# Altium integrated library Linear Technology Comparators.IntLib: 630 symbols (part 2 of 24)
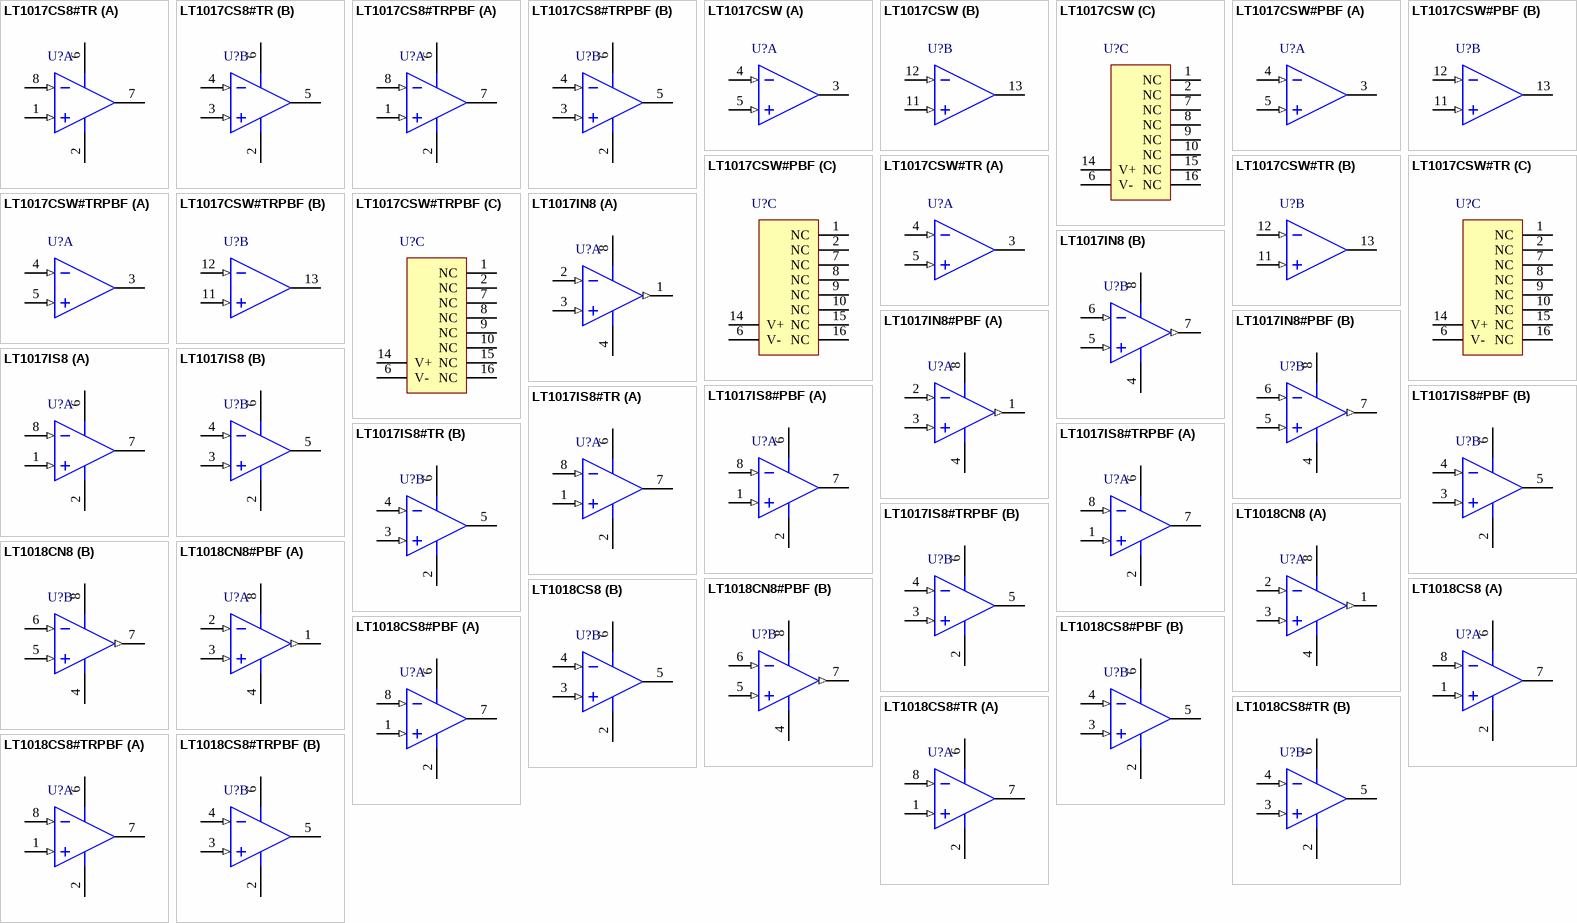
[diagram p25: symbols LT1017CS8#TR to LT1018CS8#TRPBF]

## LT1017CS8#TRPBF
designator U?
Micropower Comparator, 2 Channels, 1.2 to 40 V, 0 to +70 degC, 8-pin SOP (S8), Tape and Reel; Generic Part Number: LT1017; Manufacturer: Linear Technology; PartNumber: LT1017CS8#TRPBF; Channels (#): 2; Prop Delay (us): 22; Supply Current (uA) Guaranteed: 60; Supply Current (uA) Typical: 30; Vos (mV) Guaranteed: 1; Vos (mV) Typical: 0.4; Vs Max (V): 40; Vs Min (V): 1.2; DatasheetVersion: Rev F; PackageReference: S8; PackageDescription: 8-Pin Plastic Small Outline (Narrow .150 Inch), Body 4.9 x 3.9 mm, Pitch 1.27 mm; Supplier 1: Digi-Key; Supplier Part Number 1: LT1017CS8#TRPBF-ND; Supplier 2: Newark; Supplier Part Number 2: 57M0873; Features: Comparator; RoHS: Y; Supply Voltage Range: 1.2 to 40 V; Mounting Technology: Surface Mount; ComponentLink1Description: Manufacturer URL; ComponentLink1URL: http://www.linear.com/; ComponentLink2Description: Datasheet; ComponentLink2URL: http://cds.linear.com/docs/en/datasheet/10178ff.pdf; ComponentLink3Description: Package Specification; ComponentLink3URL: http://cds.linear.com/docs/en/packaging/05081610_G_SO8.pdf
footprint LT-S8_N (SOP, 8-Leads, Body 4.9x3.9mm, Pitch 1.27mm, IPC Medium Density)
footprint LT-S8_L (SOP, 8-Leads, Body 4.9x3.9mm, Pitch 1.27mm, IPC High Density)
footprint LT-S8_M (SOP, 8-Leads, Body 4.9x3.9mm, Pitch 1.27mm, IPC Low Density)
pins on every part: 2 V- (power), 6 V+ (power)
part A pins: 1 +IN A (in), 7 OUT A (oc), 8 -IN A (in)
part B pins: 3 +IN B (in), 4 -IN B (in), 5 OUT B (oc)

## LT1017CSW
designator U?
Micropower Comparator, 2 Channels, 1.2 to 40 V, 0 to +70 degC, 16-pin SOP (SW16); Generic Part Number: LT1017; Manufacturer: Linear Technology; PartNumber: LT1017CSW; Channels (#): 2; Prop Delay (us): 22; Supply Current (uA) Guaranteed: 60; Supply Current (uA) Typical: 30; Vos (mV) Guaranteed: 1; Vos (mV) Typical: 0.4; Vs Max (V): 40; Vs Min (V): 1.2; DatasheetVersion: Rev F; PackageReference: SW-16; PackageDescription: 16-Pin Plastic Small Outline, Body 10.30 x 7.49 mm, Pitch 1.27 mm; Supplier 1: Digi-Key; Supplier Part Number 1: LT1017CSW-ND; Features: Comparator; RoHS: N; Supply Voltage Range: 1.2 to 40 V; Mounting Technology: Surface Mount; ComponentLink1Description: Manufacturer URL; ComponentLink1URL: http://www.linear.com/; ComponentLink2Description: Datasheet; ComponentLink2URL: http://cds.linear.com/docs/en/datasheet/10178ff.pdf; ComponentLink3Description: Package Specification; ComponentLink3URL: http://cds.linear.com/docs/en/packaging/SO_16_05-08-1620.pdf
footprint LT-SW-16_N (SOIC, 16-Leads, Body 10.3x7.49mm, Pitch 1.27mm, IPC Medium Density)
footprint LT-SW-16_L (SOIC, 16-Leads, Body 10.3x7.49mm, Pitch 1.27mm, IPC High Density)
footprint LT-SW-16_M (SOIC, 16-Leads, Body 10.3x7.49mm, Pitch 1.27mm, IPC Low Density)
part A pins: 3 OUT A (oc), 4 -IN A (in), 5 +IN A (in)
part B pins: 11 +IN B (in), 12 -IN B (in), 13 OUT B (oc)
part C pins: 1 NC, 2 NC, 6 V- (power), 7 NC, 8 NC, 9 NC, 10 NC, 14 V+ (power), 15 NC, 16 NC

## LT1017CSW#PBF
designator U?
Micropower Comparator, 2 Channels, 1.2 to 40 V, 0 to +70 degC, 16-pin SOP (SW16); Generic Part Number: LT1017; Manufacturer: Linear Technology; PartNumber: LT1017CSW#PBF; Channels (#): 2; Prop Delay (us): 22; Supply Current (uA) Guaranteed: 60; Supply Current (uA) Typical: 30; Vos (mV) Guaranteed: 1; Vos (mV) Typical: 0.4; Vs Max (V): 40; Vs Min (V): 1.2; DatasheetVersion: Rev F; PackageReference: SW-16; PackageDescription: 16-Pin Plastic Small Outline, Body 10.30 x 7.49 mm, Pitch 1.27 mm; Supplier 1: Digi-Key; Supplier Part Number 1: LT1017CSW#PBF-ND; Features: Comparator; RoHS: Y; Supply Voltage Range: 1.2 to 40 V; Mounting Technology: Surface Mount; ComponentLink1Description: Manufacturer URL; ComponentLink1URL: http://www.linear.com/; ComponentLink2Description: Datasheet; ComponentLink2URL: http://cds.linear.com/docs/en/datasheet/10178ff.pdf; ComponentLink3Description: Package Specification; ComponentLink3URL: http://cds.linear.com/docs/en/packaging/SO_16_05-08-1620.pdf
footprint LT-SW-16_N (SOIC, 16-Leads, Body 10.3x7.49mm, Pitch 1.27mm, IPC Medium Density)
footprint LT-SW-16_L (SOIC, 16-Leads, Body 10.3x7.49mm, Pitch 1.27mm, IPC High Density)
footprint LT-SW-16_M (SOIC, 16-Leads, Body 10.3x7.49mm, Pitch 1.27mm, IPC Low Density)
part A pins: 3 OUT A (oc), 4 -IN A (in), 5 +IN A (in)
part B pins: 11 +IN B (in), 12 -IN B (in), 13 OUT B (oc)
part C pins: 1 NC, 2 NC, 6 V- (power), 7 NC, 8 NC, 9 NC, 10 NC, 14 V+ (power), 15 NC, 16 NC

## LT1017CSW#TR
designator U?
Micropower Comparator, 2 Channels, 1.2 to 40 V, 0 to +70 degC, 16-pin SOP (SW16), Tape and Reel; Generic Part Number: LT1017; Manufacturer: Linear Technology; PartNumber: LT1017CSW#TR; Channels (#): 2; Prop Delay (us): 22; Supply Current (uA) Guaranteed: 60; Supply Current (uA) Typical: 30; Vos (mV) Guaranteed: 1; Vos (mV) Typical: 0.4; Vs Max (V): 40; Vs Min (V): 1.2; DatasheetVersion: Rev F; PackageReference: SW-16; PackageDescription: 16-Pin Plastic Small Outline, Body 10.30 x 7.49 mm, Pitch 1.27 mm; Supplier 1: Digi-Key; Supplier Part Number 1: LT1017CSW#TR-ND; Features: Comparator; RoHS: N; Supply Voltage Range: 1.2 to 40 V; Mounting Technology: Surface Mount; ComponentLink1Description: Manufacturer URL; ComponentLink1URL: http://www.linear.com/; ComponentLink2Description: Datasheet; ComponentLink2URL: http://cds.linear.com/docs/en/datasheet/10178ff.pdf; ComponentLink3Description: Package Specification; ComponentLink3URL: http://cds.linear.com/docs/en/packaging/SO_16_05-08-1620.pdf
footprint LT-SW-16_N (SOIC, 16-Leads, Body 10.3x7.49mm, Pitch 1.27mm, IPC Medium Density)
footprint LT-SW-16_L (SOIC, 16-Leads, Body 10.3x7.49mm, Pitch 1.27mm, IPC High Density)
footprint LT-SW-16_M (SOIC, 16-Leads, Body 10.3x7.49mm, Pitch 1.27mm, IPC Low Density)
part A pins: 3 OUT A (oc), 4 -IN A (in), 5 +IN A (in)
part B pins: 11 +IN B (in), 12 -IN B (in), 13 OUT B (oc)
part C pins: 1 NC, 2 NC, 6 V- (power), 7 NC, 8 NC, 9 NC, 10 NC, 14 V+ (power), 15 NC, 16 NC

## LT1017CSW#TRPBF
designator U?
Micropower Comparator, 2 Channels, 1.2 to 40 V, 0 to +70 degC, 16-pin SOP (SW16), Tape and Reel; Generic Part Number: LT1017; Manufacturer: Linear Technology; PartNumber: LT1017CSW#TRPBF; Channels (#): 2; Prop Delay (us): 22; Supply Current (uA) Guaranteed: 60; Supply Current (uA) Typical: 30; Vos (mV) Guaranteed: 1; Vos (mV) Typical: 0.4; Vs Max (V): 40; Vs Min (V): 1.2; DatasheetVersion: Rev F; PackageReference: SW-16; PackageDescription: 16-Pin Plastic Small Outline, Body 10.30 x 7.49 mm, Pitch 1.27 mm; Supplier 1: Digi-Key; Supplier Part Number 1: LT1017CSW#TRPBF-ND; Features: Comparator; RoHS: Y; Supply Voltage Range: 1.2 to 40 V; Mounting Technology: Surface Mount; ComponentLink1Description: Manufacturer URL; ComponentLink1URL: http://www.linear.com/; ComponentLink2Description: Datasheet; ComponentLink2URL: http://cds.linear.com/docs/en/datasheet/10178ff.pdf; ComponentLink3Description: Package Specification; ComponentLink3URL: http://cds.linear.com/docs/en/packaging/SO_16_05-08-1620.pdf
footprint LT-SW-16_N (SOIC, 16-Leads, Body 10.3x7.49mm, Pitch 1.27mm, IPC Medium Density)
footprint LT-SW-16_L (SOIC, 16-Leads, Body 10.3x7.49mm, Pitch 1.27mm, IPC High Density)
footprint LT-SW-16_M (SOIC, 16-Leads, Body 10.3x7.49mm, Pitch 1.27mm, IPC Low Density)
part A pins: 3 OUT A (oc), 4 -IN A (in), 5 +IN A (in)
part B pins: 11 +IN B (in), 12 -IN B (in), 13 OUT B (oc)
part C pins: 1 NC, 2 NC, 6 V- (power), 7 NC, 8 NC, 9 NC, 10 NC, 14 V+ (power), 15 NC, 16 NC

## LT1017IN8
designator U?
Micropower Comparator, 2 Channels, 1.2 to 40 V, -40 to +85 degC, 8-pin PDIP (N8); Generic Part Number: LT1017; Manufacturer: Linear Technology; PartNumber: LT1017IN8; Channels (#): 2; Prop Delay (us): 22; Supply Current (uA) Guaranteed: 60; Supply Current (uA) Typical: 30; Supply Voltage Range: 1.2V to 40V; Vos (mV) Guaranteed: 1; Vos (mV) Typical: 0.4; Vs Max (V): 40; Vs Min (V): 1.2; DatasheetVersion: Rev F; PackageReference: N8; PackageDescription: 8-Pin PDIP, Row Spacing 7.62, Pitch 2.54 mm; Supplier 1: Digi-Key; Supplier Part Number 1: LT1017IN8-ND; Features: Comparator; RoHS: N; Mounting Technology: Through Hole; ComponentLink1Description: Manufacturer URL; ComponentLink1URL: http://www.linear.com/; ComponentLink2Description: Datasheet; ComponentLink2URL: http://cds.linear.com/docs/en/datasheet/10178ff.pdf; ComponentLink3Description: Package Specification; ComponentLink3URL: http://cds.linear.com/docs/en/packaging/05081510_I_N8.pdf
footprint LT-N8 (DIP, 8-Leads, Body 10.16x6.477mm, Pitch 2.54mm)
pins on every part: 4 V- (power), 8 V+ (power)
part A pins: 1 OUTPUTA (out), 2 -INA (in), 3 +INA (in)
part B pins: 5 +INB (in), 6 -INB (in), 7 OUTPUTB (out)

## LT1017IN8#PBF
designator U?
Micropower Comparator, 2 Channels, 1.2 to 40 V, -40 to +85 degC, 8-pin PDIP (N8); Generic Part Number: LT1017; Manufacturer: Linear Technology; PartNumber: LT1017IN8#PBF; Channels (#): 2; Prop Delay (us): 22; Supply Current (uA) Guaranteed: 60; Supply Current (uA) Typical: 30; Vos (mV) Guaranteed: 1; Vos (mV) Typical: 0.4; Vs Max (V): 40; Vs Min (V): 1.2; DatasheetVersion: Rev F; PackageReference: N8; PackageDescription: 8-Pin PDIP, Row Spacing 7.62, Pitch 2.54 mm; Supplier 1: Digi-Key; Supplier Part Number 1: LT1017IN8#PBF-ND; Supplier 2: Newark; Supplier Part Number 2: 57M0875; Features: Comparator; RoHS: Y; Supply Voltage Range: 1.2 to 40 V; Mounting Technology: Through Hole; ComponentLink1Description: Manufacturer URL; ComponentLink1URL: http://www.linear.com/; ComponentLink2Description: Datasheet; ComponentLink2URL: http://cds.linear.com/docs/en/datasheet/10178ff.pdf; ComponentLink3Description: Package Specification; ComponentLink3URL: http://cds.linear.com/docs/en/packaging/05081510_I_N8.pdf
footprint LT-N8 (DIP, 8-Leads, Body 10.16x6.477mm, Pitch 2.54mm)
pins on every part: 4 V- (power), 8 V+ (power)
part A pins: 1 OUTPUTA (out), 2 -INA (in), 3 +INA (in)
part B pins: 5 +INB (in), 6 -INB (in), 7 OUTPUTB (out)

## LT1017IS8
designator U?
Micropower Comparator, 2 Channels, 1.2 to 40 V, -40 to +85 degC, 8-pin SOP (S8); Generic Part Number: LT1017; Manufacturer: Linear Technology; PartNumber: LT1017IS8; Channels (#): 2; Prop Delay (us): 22; Supply Current (uA) Guaranteed: 60; Supply Current (uA) Typical: 30; Vos (mV) Guaranteed: 1; Vos (mV) Typical: 0.4; Vs Max (V): 40; Vs Min (V): 1.2; DatasheetVersion: Rev F; PackageReference: S8; PackageDescription: 8-Pin Plastic Small Outline (Narrow .150 Inch), Body 4.9 x 3.9 mm, Pitch 1.27 mm; Supplier 1: Digi-Key; Supplier Part Number 1: LT1017IS8-ND; Supplier 2: Newark; Supplier Part Number 2: 57M0876; Features: Comparator; RoHS: N; Supply Voltage Range: 1.2 to 40 V; Mounting Technology: Surface Mount; ComponentLink1Description: Manufacturer URL; ComponentLink1URL: http://www.linear.com/; ComponentLink2Description: Datasheet; ComponentLink2URL: http://cds.linear.com/docs/en/datasheet/10178ff.pdf; ComponentLink3Description: Package Specification; ComponentLink3URL: http://cds.linear.com/docs/en/packaging/05081610_G_SO8.pdf
footprint LT-S8_N (SOP, 8-Leads, Body 4.9x3.9mm, Pitch 1.27mm, IPC Medium Density)
footprint LT-S8_L (SOP, 8-Leads, Body 4.9x3.9mm, Pitch 1.27mm, IPC High Density)
footprint LT-S8_M (SOP, 8-Leads, Body 4.9x3.9mm, Pitch 1.27mm, IPC Low Density)
pins on every part: 2 V- (power), 6 V+ (power)
part A pins: 1 +IN A (in), 7 OUT A (oc), 8 -IN A (in)
part B pins: 3 +IN B (in), 4 -IN B (in), 5 OUT B (oc)

## LT1017IS8#PBF
designator U?
Micropower Comparator, 2 Channels, 1.2 to 40 V, -40 to +85 degC, 8-pin SOP (S8); Generic Part Number: LT1017; Manufacturer: Linear Technology; PartNumber: LT1017IS8#PBF; Channels (#): 2; Prop Delay (us): 22; Supply Current (uA) Guaranteed: 60; Supply Current (uA) Typical: 30; Vos (mV) Guaranteed: 1; Vos (mV) Typical: 0.4; Vs Max (V): 40; Vs Min (V): 1.2; DatasheetVersion: Rev F; PackageReference: S8; PackageDescription: 8-Pin Plastic Small Outline (Narrow .150 Inch), Body 4.9 x 3.9 mm, Pitch 1.27 mm; Supplier 1: Digi-Key; Supplier Part Number 1: LT1017IS8#PBF-ND; Supplier 2: Farnell; Supplier Part Number 2: 1663330; Supplier 3: Newark; Supplier Part Number 3: 57M0877; Features: Comparator; RoHS: Y; Supply Voltage Range: 1.2 to 40 V; Mounting Technology: Surface Mount; ComponentLink1Description: Manufacturer URL; ComponentLink1URL: http://www.linear.com/; ComponentLink2Description: Datasheet; ComponentLink2URL: http://cds.linear.com/docs/en/datasheet/10178ff.pdf; ComponentLink3Description: Package Specification; ComponentLink3URL: http://cds.linear.com/docs/en/packaging/05081610_G_SO8.pdf
footprint LT-S8_N (SOP, 8-Leads, Body 4.9x3.9mm, Pitch 1.27mm, IPC Medium Density)
footprint LT-S8_L (SOP, 8-Leads, Body 4.9x3.9mm, Pitch 1.27mm, IPC High Density)
footprint LT-S8_M (SOP, 8-Leads, Body 4.9x3.9mm, Pitch 1.27mm, IPC Low Density)
pins on every part: 2 V- (power), 6 V+ (power)
part A pins: 1 +IN A (in), 7 OUT A (oc), 8 -IN A (in)
part B pins: 3 +IN B (in), 4 -IN B (in), 5 OUT B (oc)

## LT1017IS8#TR
designator U?
Micropower Comparator, 2 Channels, 1.2 to 40 V, -40 to +85 degC, 8-pin SOP (S8), Tape and Reel; Generic Part Number: LT1017; Manufacturer: Linear Technology; PartNumber: LT1017IS8#TR; Channels (#): 2; Prop Delay (us): 22; Supply Current (uA) Guaranteed: 60; Supply Current (uA) Typical: 30; Vos (mV) Guaranteed: 1; Vos (mV) Typical: 0.4; Vs Max (V): 40; Vs Min (V): 1.2; DatasheetVersion: Rev F; PackageReference: S8; PackageDescription: 8-Pin Plastic Small Outline (Narrow .150 Inch), Body 4.9 x 3.9 mm, Pitch 1.27 mm; Supplier 1: Digi-Key; Supplier Part Number 1: LT1017IS8#TR-ND; Supplier 2: Newark; Supplier Part Number 2: 57M0878; Features: Comparator; RoHS: N; Supply Voltage Range: 1.2 to 40 V; Mounting Technology: Surface Mount; ComponentLink1Description: Manufacturer URL; ComponentLink1URL: http://www.linear.com/; ComponentLink2Description: Datasheet; ComponentLink2URL: http://cds.linear.com/docs/en/datasheet/10178ff.pdf; ComponentLink3Description: Package Specification; ComponentLink3URL: http://cds.linear.com/docs/en/packaging/05081610_G_SO8.pdf
footprint LT-S8_N (SOP, 8-Leads, Body 4.9x3.9mm, Pitch 1.27mm, IPC Medium Density)
footprint LT-S8_L (SOP, 8-Leads, Body 4.9x3.9mm, Pitch 1.27mm, IPC High Density)
footprint LT-S8_M (SOP, 8-Leads, Body 4.9x3.9mm, Pitch 1.27mm, IPC Low Density)
pins on every part: 2 V- (power), 6 V+ (power)
part A pins: 1 +IN A (in), 7 OUT A (oc), 8 -IN A (in)
part B pins: 3 +IN B (in), 4 -IN B (in), 5 OUT B (oc)

## LT1017IS8#TRPBF
designator U?
Micropower Comparator, 2 Channels, 1.2 to 40 V, -40 to +85 degC, 8-pin SOP (S8), Tape and Reel; Generic Part Number: LT1017; Manufacturer: Linear Technology; PartNumber: LT1017IS8#TRPBF; Channels (#): 2; Prop Delay (us): 22; Supply Current (uA) Guaranteed: 60; Supply Current (uA) Typical: 30; Vos (mV) Guaranteed: 1; Vos (mV) Typical: 0.4; Vs Max (V): 40; Vs Min (V): 1.2; DatasheetVersion: Rev F; PackageReference: S8; PackageDescription: 8-Pin Plastic Small Outline (Narrow .150 Inch), Body 4.9 x 3.9 mm, Pitch 1.27 mm; Supplier 1: Digi-Key; Supplier Part Number 1: LT1017IS8#TRPBF-ND; Supplier 2: Newark; Supplier Part Number 2: 57M0879; Features: Comparator; RoHS: Y; Supply Voltage Range: 1.2 to 40 V; Mounting Technology: Surface Mount; ComponentLink1Description: Manufacturer URL; ComponentLink1URL: http://www.linear.com/; ComponentLink2Description: Datasheet; ComponentLink2URL: http://cds.linear.com/docs/en/datasheet/10178ff.pdf; ComponentLink3Description: Package Specification; ComponentLink3URL: http://cds.linear.com/docs/en/packaging/05081610_G_SO8.pdf
footprint LT-S8_N (SOP, 8-Leads, Body 4.9x3.9mm, Pitch 1.27mm, IPC Medium Density)
footprint LT-S8_L (SOP, 8-Leads, Body 4.9x3.9mm, Pitch 1.27mm, IPC High Density)
footprint LT-S8_M (SOP, 8-Leads, Body 4.9x3.9mm, Pitch 1.27mm, IPC Low Density)
pins on every part: 2 V- (power), 6 V+ (power)
part A pins: 1 +IN A (in), 7 OUT A (oc), 8 -IN A (in)
part B pins: 3 +IN B (in), 4 -IN B (in), 5 OUT B (oc)

## LT1018CN8
designator U?
Micropower Comparator, 2 Channels, 1.1 to 40 V, 0 to +70 degC, 8-pin PDIP (N8); Generic Part Number: LT1018; Manufacturer: Linear Technology; PartNumber: LT1018CN8; Channels (#): 2; Prop Delay (us): 6; Supply Current (uA) Guaranteed: 250; Supply Current (uA) Typical: 110; Supply Voltage Range: 1.2 to 40V; Vos (mV) Guaranteed: 1; Vos (mV) Typical: 0.4; Vs Max (V): 40; Vs Min (V): 1.2; DatasheetVersion: Rev F; PackageReference: N8; PackageDescription: 8-Pin PDIP, Row Spacing 7.62, Pitch 2.54 mm; Supplier 1: Digi-Key; Supplier Part Number 1: LT1018CN8-ND; Features: Comparator; RoHS: N; Mounting Technology: Through Hole; ComponentLink1Description: Manufacturer URL; ComponentLink1URL: http://www.linear.com/; ComponentLink2Description: Datasheet; ComponentLink2URL: http://cds.linear.com/docs/en/datasheet/10178ff.pdf; ComponentLink3Description: Package Specification; ComponentLink3URL: http://cds.linear.com/docs/en/packaging/05081510_I_N8.pdf
footprint LT-N8 (DIP, 8-Leads, Body 10.16x6.477mm, Pitch 2.54mm)
pins on every part: 4 V- (power), 8 V+ (power)
part A pins: 1 OUTPUTA (out), 2 -INA (in), 3 +INA (in)
part B pins: 5 +INB (in), 6 -INB (in), 7 OUTPUTB (out)

## LT1018CN8#PBF
designator U?
Micropower Comparator, 2 Channels, 1.2 to 40 V, 0 to +70 degC, 8-pin PDIP (N8); Generic Part Number: LT1018; Manufacturer: Linear Technology; PartNumber: LT1018CN8#PBF; Channels (#): 2; Prop Delay (us): 6; Supply Current (uA) Guaranteed: 250; Supply Current (uA) Typical: 110; Supply Voltage Range: 1.2V to 40V; Vos (mV) Guaranteed: 1; Vos (mV) Typical: 0.4; Vs Max (V): 40; Vs Min (V): 1.2; DatasheetVersion: Rev F; PackageReference: N8; PackageDescription: 8-Pin PDIP, Row Spacing 7.62, Pitch 2.54 mm; Supplier 1: Digi-Key; Supplier Part Number 1: LT1018CN8#PBF-ND; Supplier 2: Farnell; Supplier Part Number 2: 2308582; Supplier 3: Newark; Supplier Part Number 3: 57M0881; Features: Comparator; RoHS: Y; Mounting Technology: Through Hole; ComponentLink1Description: Manufacturer URL; ComponentLink1URL: http://www.linear.com/; ComponentLink2Description: Datasheet; ComponentLink2URL: http://cds.linear.com/docs/en/datasheet/10178ff.pdf; ComponentLink3Description: Package Specification; ComponentLink3URL: http://cds.linear.com/docs/en/packaging/05081510_I_N8.pdf
footprint LT-N8 (DIP, 8-Leads, Body 10.16x6.477mm, Pitch 2.54mm)
pins on every part: 4 V- (power), 8 V+ (power)
part A pins: 1 OUTPUTA (out), 2 -INA (in), 3 +INA (in)
part B pins: 5 +INB (in), 6 -INB (in), 7 OUTPUTB (out)

## LT1018CS8
designator U?
Micropower Comparator, 2 Channels, 1.2 to 40 V, 0 to +70 degC, 8-pin SOP (S8); Generic Part Number: LT1018; Manufacturer: Linear Technology; PartNumber: LT1018CS8; Channels (#): 2; Prop Delay (us): 6; Supply Current (uA) Guaranteed: 250; Supply Current (uA) Typical: 110; Supply Voltage Range: 1.2V to 40V; Vos (mV) Guaranteed: 1; Vos (mV) Typical: 0.4; Vs Max (V): 40; Vs Min (V): 1.2; DatasheetVersion: Rev F; PackageReference: S8; PackageDescription: 8-Pin Plastic Small Outline (Narrow .150 Inch), Body 4.9 x 3.9 mm, Pitch 1.27 mm; Supplier 1: Digi-Key; Supplier Part Number 1: LT1018CS8-ND; Features: Comparator; RoHS: N; Mounting Technology: Surface Mount; ComponentLink1Description: Manufacturer URL; ComponentLink1URL: http://www.linear.com/; ComponentLink2Description: Datasheet; ComponentLink2URL: http://cds.linear.com/docs/en/datasheet/10178ff.pdf; ComponentLink3Description: Package Specification; ComponentLink3URL: http://cds.linear.com/docs/en/packaging/05081610_G_SO8.pdf
footprint LT-S8_N (SOP, 8-Leads, Body 4.9x3.9mm, Pitch 1.27mm, IPC Medium Density)
footprint LT-S8_L (SOP, 8-Leads, Body 4.9x3.9mm, Pitch 1.27mm, IPC High Density)
footprint LT-S8_M (SOP, 8-Leads, Body 4.9x3.9mm, Pitch 1.27mm, IPC Low Density)
pins on every part: 2 V- (power), 6 V+ (power)
part A pins: 1 +IN A (in), 7 OUT A (oc), 8 -IN A (in)
part B pins: 3 +IN B (in), 4 -IN B (in), 5 OUT B (oc)

## LT1018CS8#PBF
designator U?
Micropower Comparator, 2 Channels, 1.2 to 40 V, 0 to +70 degC, 8-pin SOP (S8); Generic Part Number: LT1018; Manufacturer: Linear Technology; PartNumber: LT1018CS8#PBF; Channels (#): 2; Prop Delay (us): 6; Supply Current (uA) Guaranteed: 250; Supply Current (uA) Typical: 110; Vos (mV) Guaranteed: 1; Vos (mV) Typical: 0.4; Vs Max (V): 40; Vs Min (V): 1.2; DatasheetVersion: Rev F; PackageReference: S8; PackageDescription: 8-Pin Plastic Small Outline (Narrow .150 Inch), Body 4.9 x 3.9 mm, Pitch 1.27 mm; Supplier 1: Digi-Key; Supplier Part Number 1: LT1018CS8#PBF-ND; Supplier 2: Farnell; Supplier Part Number 2: 2211394; Supplier 3: Newark; Supplier Part Number 3: 57M0887; Features: Comparator; RoHS: Y; Supply Voltage Range: 1.2 to 40 V; Mounting Technology: Surface Mount; ComponentLink1Description: Manufacturer URL; ComponentLink1URL: http://www.linear.com/; ComponentLink2Description: Datasheet; ComponentLink2URL: http://cds.linear.com/docs/en/datasheet/10178ff.pdf; ComponentLink3Description: Package Specification; ComponentLink3URL: http://cds.linear.com/docs/en/packaging/05081610_G_SO8.pdf
footprint LT-S8_N (SOP, 8-Leads, Body 4.9x3.9mm, Pitch 1.27mm, IPC Medium Density)
footprint LT-S8_L (SOP, 8-Leads, Body 4.9x3.9mm, Pitch 1.27mm, IPC High Density)
footprint LT-S8_M (SOP, 8-Leads, Body 4.9x3.9mm, Pitch 1.27mm, IPC Low Density)
pins on every part: 2 V- (power), 6 V+ (power)
part A pins: 1 +IN A (in), 7 OUT A (oc), 8 -IN A (in)
part B pins: 3 +IN B (in), 4 -IN B (in), 5 OUT B (oc)

## LT1018CS8#TR
designator U?
Micropower Comparator, 2 Channels, 1.1 to 40 V, 0 to +70 degC, 8-pin SOP (S8), Tape and Reel; Generic Part Number: LT1018; Manufacturer: Linear Technology; PartNumber: LT1018CS8#TR; Channels (#): 2; Prop Delay (us): 6; Supply Current (uA) Guaranteed: 250; Supply Current (uA) Typical: 110; Supply Voltage Range: 1.2 to 40 V; Vos (mV) Guaranteed: 1; Vos (mV) Typical: 0.4; Vs Max (V): 40; Vs Min (V): 1.2; DatasheetVersion: Rev F; PackageReference: S8; PackageDescription: 8-Pin Plastic Small Outline (Narrow .150 Inch), Body 4.9 x 3.9 mm, Pitch 1.27 mm; Supplier 1: Digi-Key; Supplier Part Number 1: LT1018CS8#TR-ND; Features: Comparator; RoHS: N; Mounting Technology: Surface Mount; ComponentLink1Description: Manufacturer URL; ComponentLink1URL: http://www.linear.com/; ComponentLink2Description: Datasheet; ComponentLink2URL: http://cds.linear.com/docs/en/datasheet/10178ff.pdf; ComponentLink3Description: Package Specification; ComponentLink3URL: http://cds.linear.com/docs/en/packaging/05081610_G_SO8.pdf
footprint LT-S8_N (SOP, 8-Leads, Body 4.9x3.9mm, Pitch 1.27mm, IPC Medium Density)
footprint LT-S8_L (SOP, 8-Leads, Body 4.9x3.9mm, Pitch 1.27mm, IPC High Density)
footprint LT-S8_M (SOP, 8-Leads, Body 4.9x3.9mm, Pitch 1.27mm, IPC Low Density)
pins on every part: 2 V- (power), 6 V+ (power)
part A pins: 1 +IN A (in), 7 OUT A (oc), 8 -IN A (in)
part B pins: 3 +IN B (in), 4 -IN B (in), 5 OUT B (oc)

## LT1018CS8#TRPBF
designator U?
Micropower Comparator, 2 Channels, 1.2 to 40 V, 0 to +70 degC, 8-pin SOP (S8), Tape and Reel; Generic Part Number: LT1018; Manufacturer: Linear Technology; PartNumber: LT1018CS8#TRPBF; Channels (#): 2; Prop Delay (us): 6; Supply Current (uA) Guaranteed: 250; Supply Current (uA) Typical: 110; Vos (mV) Guaranteed: 1; Vos (mV) Typical: 0.4; Vs Max (V): 40; Vs Min (V): 1.2; DatasheetVersion: Rev F; PackageReference: S8; PackageDescription: 8-Pin Plastic Small Outline (Narrow .150 Inch), Body 4.9 x 3.9 mm, Pitch 1.27 mm; Supplier 1: Digi-Key; Supplier Part Number 1: LT1018CS8#TRPBF-ND; Features: Comparator; RoHS: Y; Supply Voltage Range: 1.2 to 40 V; Mounting Technology: Surface Mount; ComponentLink1Description: Manufacturer URL; ComponentLink1URL: http://www.linear.com/; ComponentLink2Description: Datasheet; ComponentLink2URL: http://cds.linear.com/docs/en/datasheet/10178ff.pdf; ComponentLink3Description: Package Specification; ComponentLink3URL: http://cds.linear.com/docs/en/packaging/05081610_G_SO8.pdf
footprint LT-S8_N (SOP, 8-Leads, Body 4.9x3.9mm, Pitch 1.27mm, IPC Medium Density)
footprint LT-S8_L (SOP, 8-Leads, Body 4.9x3.9mm, Pitch 1.27mm, IPC High Density)
footprint LT-S8_M (SOP, 8-Leads, Body 4.9x3.9mm, Pitch 1.27mm, IPC Low Density)
pins on every part: 2 V- (power), 6 V+ (power)
part A pins: 1 +IN A (in), 7 OUT A (oc), 8 -IN A (in)
part B pins: 3 +IN B (in), 4 -IN B (in), 5 OUT B (oc)

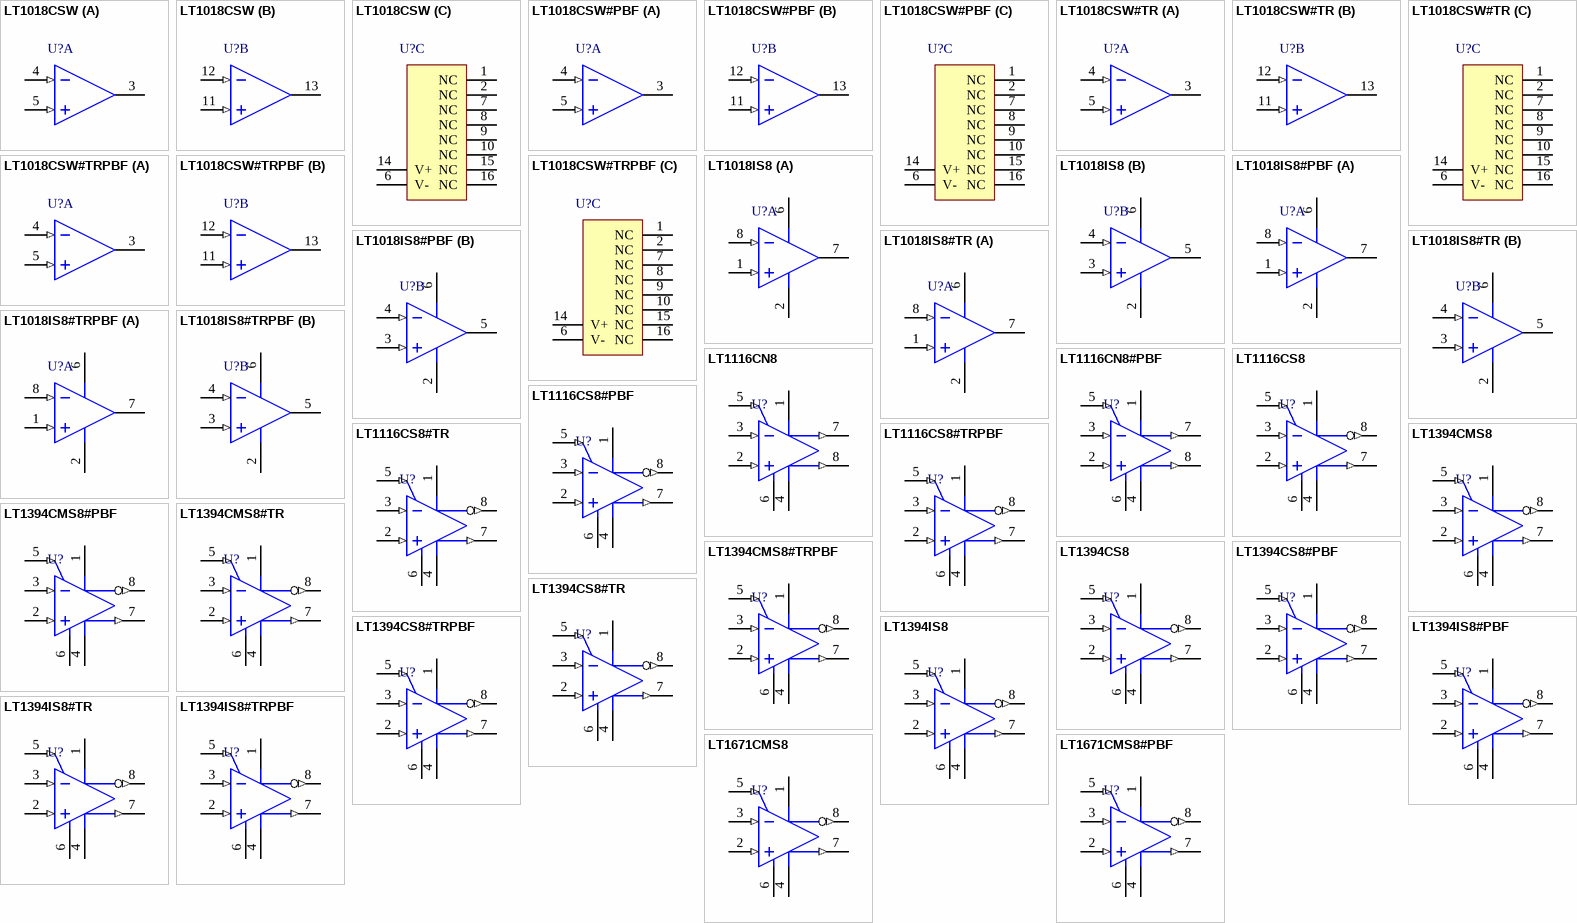
[diagram p2: symbols LT1018CSW to LT1671CMS8#PBF]

## LT1018CSW
designator U?
Micropower Comparator, 2 Channels, 1.2 to 40 V, 0 to +70 degC, 16-pin SOP (SW16); Generic Part Number: LT1018; Manufacturer: Linear Technology; PartNumber: LT1018CSW; Channels (#): 2; Prop Delay (us): 6; Supply Current (uA) Guaranteed: 250; Supply Current (uA) Typical: 110; Vos (mV) Guaranteed: 1; Vos (mV) Typical: 0.4; Vs Max (V): 40; Vs Min (V): 1.2; DatasheetVersion: Rev F; PackageReference: SW-16; PackageDescription: 16-Pin Plastic Small Outline, Body 10.30 x 7.49 mm, Pitch 1.27 mm; Supplier 1: Digi-Key; Supplier Part Number 1: LT1018CSW-ND; Features: Comparator; RoHS: N; Supply Voltage Range: 1.2 to 40 V; Mounting Technology: Surface Mount; ComponentLink1Description: Manufacturer URL; ComponentLink1URL: http://www.linear.com/; ComponentLink2Description: Datasheet; ComponentLink2URL: http://cds.linear.com/docs/en/datasheet/10178ff.pdf; ComponentLink3Description: Package Specification; ComponentLink3URL: http://cds.linear.com/docs/en/packaging/SO_16_05-08-1620.pdf
footprint LT-SW-16_N (SOIC, 16-Leads, Body 10.3x7.49mm, Pitch 1.27mm, IPC Medium Density)
footprint LT-SW-16_L (SOIC, 16-Leads, Body 10.3x7.49mm, Pitch 1.27mm, IPC High Density)
footprint LT-SW-16_M (SOIC, 16-Leads, Body 10.3x7.49mm, Pitch 1.27mm, IPC Low Density)
part A pins: 3 OUT A (oc), 4 -IN A (in), 5 +IN A (in)
part B pins: 11 +IN B (in), 12 -IN B (in), 13 OUT B (oc)
part C pins: 1 NC, 2 NC, 6 V- (power), 7 NC, 8 NC, 9 NC, 10 NC, 14 V+ (power), 15 NC, 16 NC

## LT1018CSW#PBF
designator U?
Micropower Comparator, 2 Channels, 1.2 to 40 V, 0 to +70 degC, 16-pin SOP (SW16); Generic Part Number: LT1018; Manufacturer: Linear Technology; PartNumber: LT1018CSW#PBF; Channels (#): 2; Prop Delay (us): 6; Supply Current (uA) Guaranteed: 250; Supply Current (uA) Typical: 110; Vos (mV) Guaranteed: 1; Vos (mV) Typical: 0.4; Vs Max (V): 40; Vs Min (V): 1.2; DatasheetVersion: Rev F; PackageReference: SW-16; PackageDescription: 16-Pin Plastic Small Outline, Body 10.30 x 7.49 mm, Pitch 1.27 mm; Supplier 1: Digi-Key; Supplier Part Number 1: LT1018CSW#PBF-ND; Features: Comparator; RoHS: Y; Supply Voltage Range: 1.2 to 40 V; Mounting Technology: Surface Mount; ComponentLink1Description: Manufacturer URL; ComponentLink1URL: http://www.linear.com/; ComponentLink2Description: Datasheet; ComponentLink2URL: http://cds.linear.com/docs/en/datasheet/10178ff.pdf; ComponentLink3Description: Package Specification; ComponentLink3URL: http://cds.linear.com/docs/en/packaging/SO_16_05-08-1620.pdf
footprint LT-SW-16_N (SOIC, 16-Leads, Body 10.3x7.49mm, Pitch 1.27mm, IPC Medium Density)
footprint LT-SW-16_L (SOIC, 16-Leads, Body 10.3x7.49mm, Pitch 1.27mm, IPC High Density)
footprint LT-SW-16_M (SOIC, 16-Leads, Body 10.3x7.49mm, Pitch 1.27mm, IPC Low Density)
part A pins: 3 OUT A (oc), 4 -IN A (in), 5 +IN A (in)
part B pins: 11 +IN B (in), 12 -IN B (in), 13 OUT B (oc)
part C pins: 1 NC, 2 NC, 6 V- (power), 7 NC, 8 NC, 9 NC, 10 NC, 14 V+ (power), 15 NC, 16 NC

## LT1018CSW#TR
designator U?
Micropower Comparator, 2 Channels, 1.2 to 40 V, 0 to +70 degC, 16-pin SOP (SW16), Tape and Reel; Generic Part Number: LT1018; Manufacturer: Linear Technology; PartNumber: LT1018CSW#TR; Channels (#): 2; Prop Delay (us): 6; Supply Current (uA) Guaranteed: 250; Supply Current (uA) Typical: 110; Vos (mV) Guaranteed: 1; Vos (mV) Typical: 0.4; Vs Max (V): 40; Vs Min (V): 1.2; DatasheetVersion: Rev F; PackageReference: SW-16; PackageDescription: 16-Pin Plastic Small Outline, Body 10.30 x 7.49 mm, Pitch 1.27 mm; Supplier 1: Digi-Key; Supplier Part Number 1: LT1018CSW#TR-ND; Features: Comparator; RoHS: N; Supply Voltage Range: 1.2 to 40 V; Mounting Technology: Surface Mount; ComponentLink1Description: Manufacturer URL; ComponentLink1URL: http://www.linear.com/; ComponentLink2Description: Datasheet; ComponentLink2URL: http://cds.linear.com/docs/en/datasheet/10178ff.pdf; ComponentLink3Description: Package Specification; ComponentLink3URL: http://cds.linear.com/docs/en/packaging/SO_16_05-08-1620.pdf
footprint LT-SW-16_N (SOIC, 16-Leads, Body 10.3x7.49mm, Pitch 1.27mm, IPC Medium Density)
footprint LT-SW-16_L (SOIC, 16-Leads, Body 10.3x7.49mm, Pitch 1.27mm, IPC High Density)
footprint LT-SW-16_M (SOIC, 16-Leads, Body 10.3x7.49mm, Pitch 1.27mm, IPC Low Density)
part A pins: 3 OUT A (oc), 4 -IN A (in), 5 +IN A (in)
part B pins: 11 +IN B (in), 12 -IN B (in), 13 OUT B (oc)
part C pins: 1 NC, 2 NC, 6 V- (power), 7 NC, 8 NC, 9 NC, 10 NC, 14 V+ (power), 15 NC, 16 NC

## LT1018CSW#TRPBF
designator U?
Micropower Comparator, 2 Channels, 1.2 to 40 V, 0 to +70 degC, 16-pin SOP (SW16), Tape and Reel; Generic Part Number: LT1018; Manufacturer: Linear Technology; PartNumber: LT1018CSW#TRPBF; Channels (#): 2; Prop Delay (us): 6; Supply Current (uA) Guaranteed: 250; Supply Current (uA) Typical: 110; Vos (mV) Guaranteed: 1; Vos (mV) Typical: 0.4; Vs Max (V): 40; Vs Min (V): 1.2; DatasheetVersion: Rev F; PackageReference: SW-16; PackageDescription: 16-Pin Plastic Small Outline, Body 10.30 x 7.49 mm, Pitch 1.27 mm; Supplier 1: Digi-Key; Supplier Part Number 1: LT1018CSW#TRPBF-ND; Features: Comparator; RoHS: Y; Supply Voltage Range: 1.2 to 40 V; Mounting Technology: Surface Mount; ComponentLink1Description: Manufacturer URL; ComponentLink1URL: http://www.linear.com/; ComponentLink2Description: Datasheet; ComponentLink2URL: http://cds.linear.com/docs/en/datasheet/10178ff.pdf; ComponentLink3Description: Package Specification; ComponentLink3URL: http://cds.linear.com/docs/en/packaging/SO_16_05-08-1620.pdf
footprint LT-SW-16_N (SOIC, 16-Leads, Body 10.3x7.49mm, Pitch 1.27mm, IPC Medium Density)
footprint LT-SW-16_L (SOIC, 16-Leads, Body 10.3x7.49mm, Pitch 1.27mm, IPC High Density)
footprint LT-SW-16_M (SOIC, 16-Leads, Body 10.3x7.49mm, Pitch 1.27mm, IPC Low Density)
part A pins: 3 OUT A (oc), 4 -IN A (in), 5 +IN A (in)
part B pins: 11 +IN B (in), 12 -IN B (in), 13 OUT B (oc)
part C pins: 1 NC, 2 NC, 6 V- (power), 7 NC, 8 NC, 9 NC, 10 NC, 14 V+ (power), 15 NC, 16 NC

## LT1018IS8
designator U?
Micropower Comparator, 2 Channels, 1.2 to 40 V, -40 to +85 degC, 8-pin SOP (S8); Generic Part Number: LT1018; Manufacturer: Linear Technology; PartNumber: LT1018IS8; Channels (#): 2; Prop Delay (us): 6; Supply Current (uA) Guaranteed: 250; Supply Current (uA) Typical: 110; Vos (mV) Guaranteed: 1; Vos (mV) Typical: 0.4; Vs Max (V): 40; Vs Min (V): 1.2; DatasheetVersion: Rev F; PackageReference: S8; PackageDescription: 8-Pin Plastic Small Outline (Narrow .150 Inch), Body 4.9 x 3.9 mm, Pitch 1.27 mm; Features: Comparator; RoHS: N; Supply Voltage Range: 1.2 to 40 V; Mounting Technology: Surface Mount; ComponentLink1Description: Manufacturer URL; ComponentLink1URL: http://www.linear.com/; ComponentLink2Description: Datasheet; ComponentLink2URL: http://cds.linear.com/docs/en/datasheet/10178ff.pdf; ComponentLink3Description: Package Specification; ComponentLink3URL: http://cds.linear.com/docs/en/packaging/05081610_G_SO8.pdf
footprint LT-S8_N (SOP, 8-Leads, Body 4.9x3.9mm, Pitch 1.27mm, IPC Medium Density)
footprint LT-S8_L (SOP, 8-Leads, Body 4.9x3.9mm, Pitch 1.27mm, IPC High Density)
footprint LT-S8_M (SOP, 8-Leads, Body 4.9x3.9mm, Pitch 1.27mm, IPC Low Density)
pins on every part: 2 V- (power), 6 V+ (power)
part A pins: 1 +IN A (in), 7 OUT A (oc), 8 -IN A (in)
part B pins: 3 +IN B (in), 4 -IN B (in), 5 OUT B (oc)

## LT1018IS8#PBF
designator U?
Micropower Comparator, 2 Channels, 1.2 to 40 V, -40 to +85 degC, 8-pin SOP (S8); Generic Part Number: LT1018; Manufacturer: Linear Technology; PartNumber: LT1018IS8#PBF; Channels (#): 2; Prop Delay (us): 6; Supply Current (uA) Guaranteed: 250; Supply Current (uA) Typical: 110; Vos (mV) Guaranteed: 1; Vos (mV) Typical: 0.4; Vs Max (V): 40; Vs Min (V): 1.2; DatasheetVersion: Rev F; PackageReference: S8; PackageDescription: 8-Pin Plastic Small Outline (Narrow .150 Inch), Body 4.9 x 3.9 mm, Pitch 1.27 mm; Supplier 1: Digi-Key; Supplier Part Number 1: LT1018IS8#PBF-ND; Supplier 2: Newark; Supplier Part Number 2: 57M0891; Features: Comparator; RoHS: Y; Supply Voltage Range: 1.2 to 40 V; Mounting Technology: Surface Mount; ComponentLink1Description: Manufacturer URL; ComponentLink1URL: http://www.linear.com/; ComponentLink2Description: Datasheet; ComponentLink2URL: http://cds.linear.com/docs/en/datasheet/10178ff.pdf; ComponentLink3Description: Package Specification; ComponentLink3URL: http://cds.linear.com/docs/en/packaging/05081610_G_SO8.pdf
footprint LT-S8_N (SOP, 8-Leads, Body 4.9x3.9mm, Pitch 1.27mm, IPC Medium Density)
footprint LT-S8_L (SOP, 8-Leads, Body 4.9x3.9mm, Pitch 1.27mm, IPC High Density)
footprint LT-S8_M (SOP, 8-Leads, Body 4.9x3.9mm, Pitch 1.27mm, IPC Low Density)
pins on every part: 2 V- (power), 6 V+ (power)
part A pins: 1 +IN A (in), 7 OUT A (oc), 8 -IN A (in)
part B pins: 3 +IN B (in), 4 -IN B (in), 5 OUT B (oc)

## LT1018IS8#TR
designator U?
Micropower Comparator, 2 Channels, 1.2 to 40 V, -40 to +85 degC, 8-pin SOP (S8), Reel; Generic Part Number: LT1018; Manufacturer: Linear Technology; PartNumber: LT1018IS8#TR; Channels (#): 2; Prop Delay (us): 6; Supply Current (uA) Guaranteed: 250; Supply Current (uA) Typical: 110; Supply Voltage Range: 1.2V to 40V; Vos (mV) Guaranteed: 1; Vos (mV) Typical: 0.4; Vs Max (V): 40; Vs Min (V): 1.2; DatasheetVersion: Rev F; PackageReference: S8; PackageDescription: 8-Pin Plastic Small Outline (Narrow .150 Inch), Body 4.9 x 3.9 mm, Pitch 1.27 mm; Features: Comparator; RoHS: N; Mounting Technology: Surface Mount; ComponentLink1Description: Manufacturer URL; ComponentLink1URL: http://www.linear.com/; ComponentLink2Description: Datasheet; ComponentLink2URL: http://cds.linear.com/docs/en/datasheet/10178ff.pdf; ComponentLink3Description: Package Specification; ComponentLink3URL: http://cds.linear.com/docs/en/packaging/05081610_G_SO8.pdf
footprint LT-S8_N (SOP, 8-Leads, Body 4.9x3.9mm, Pitch 1.27mm, IPC Medium Density)
footprint LT-S8_L (SOP, 8-Leads, Body 4.9x3.9mm, Pitch 1.27mm, IPC High Density)
footprint LT-S8_M (SOP, 8-Leads, Body 4.9x3.9mm, Pitch 1.27mm, IPC Low Density)
pins on every part: 2 V- (power), 6 V+ (power)
part A pins: 1 +IN A (in), 7 OUT A (oc), 8 -IN A (in)
part B pins: 3 +IN B (in), 4 -IN B (in), 5 OUT B (oc)

## LT1018IS8#TRPBF
designator U?
Micropower Comparator, 2 Channels, 1.2 to 40 V, -40 to +85 degC, 8-pin SOP (S8), Tape and Reel; Generic Part Number: LT1018; Manufacturer: Linear Technology; PartNumber: LT1018IS8#TRPBF; Channels (#): 2; Prop Delay (us): 6; Supply Current (uA) Guaranteed: 250; Supply Current (uA) Typical: 110; Vos (mV) Guaranteed: 1; Vos (mV) Typical: 0.4; Vs Max (V): 40; Vs Min (V): 1.2; DatasheetVersion: Rev F; PackageReference: S8; PackageDescription: 8-Pin Plastic Small Outline (Narrow .150 Inch), Body 4.9 x 3.9 mm, Pitch 1.27 mm; Supplier 1: Digi-Key; Supplier Part Number 1: LT1018IS8#TRPBF-ND; Features: Comparator; RoHS: Y; Supply Voltage Range: 1.2 to 40 V; Mounting Technology: Surface Mount; ComponentLink1Description: Manufacturer URL; ComponentLink1URL: http://www.linear.com/; ComponentLink2Description: Datasheet; ComponentLink2URL: http://cds.linear.com/docs/en/datasheet/10178ff.pdf; ComponentLink3Description: Package Specification; ComponentLink3URL: http://cds.linear.com/docs/en/packaging/05081610_G_SO8.pdf
footprint LT-S8_N (SOP, 8-Leads, Body 4.9x3.9mm, Pitch 1.27mm, IPC Medium Density)
footprint LT-S8_L (SOP, 8-Leads, Body 4.9x3.9mm, Pitch 1.27mm, IPC High Density)
footprint LT-S8_M (SOP, 8-Leads, Body 4.9x3.9mm, Pitch 1.27mm, IPC Low Density)
pins on every part: 2 V- (power), 6 V+ (power)
part A pins: 1 +IN A (in), 7 OUT A (oc), 8 -IN A (in)
part B pins: 3 +IN B (in), 4 -IN B (in), 5 OUT B (oc)

## LT1116CN8
designator U?
12 ns, Single Supply Ground-Sensing Comparator, 1 Channel, 4.5 to + / -5 V, 0 to +70 degC, 8-pin PDIP (N8); Generic Part Number: LT1116; Manufacturer: Linear Technology; PartNumber: LT1116CN8; Channels (#): 1; Prop Delay (us): 0.01; Supply Current (uA) Typical: 38000; Vos (mV) Guaranteed: 3; Vs Max (V): 10; Vs Min (V): 4.5; DatasheetVersion: Rev B; PackageReference: N8; PackageDescription: 8-Pin PDIP, Row Spacing 7.62, Pitch 2.54 mm; Supplier 1: Digi-Key; Supplier Part Number 1: LT1116CN8-ND; Features: Comparator, Output Latch; RoHS: N; Supply Voltage Range: 4.5 to + / -5 V; Vos (mV) Typical: 1; Mounting Technology: Through Hole; ComponentLink1Description: Manufacturer URL; ComponentLink1URL: http://www.linear.com/; ComponentLink2Description: Datasheet; ComponentLink2URL: http://cds.linear.com/docs/en/datasheet/1116fb.pdf; ComponentLink3Description: Package Specification; ComponentLink3URL: http://cds.linear.com/docs/en/packaging/05081510_I_N8.pdf
footprint LT-N8 (DIP, 8-Leads, Body 10.16x6.477mm, Pitch 2.54mm)
pins: 1 V+ (power), 2 +IN (in), 3 -IN (in), 4 V- (power), 5 LATCH ENABLE (in), 6 GND (power), 7 Q OUT (out), 8 ~{Q} OUT (out)

## LT1116CN8#PBF
designator U?
12 ns, Single Supply Ground-Sensing Comparator, 1 Channel, 4.5 to + / -5 V, 0 to +70 degC, 8-pin PDIP (N8); Generic Part Number: LT1116; Manufacturer: Linear Technology; PartNumber: LT1116CN8#PBF; Channels (#): 1; Prop Delay (us): 0.01; Supply Current (uA) Typical: 38000; Vos (mV) Guaranteed: 3; Vs Max (V): 10; Vs Min (V): 4.5; DatasheetVersion: Rev B; PackageReference: N8; PackageDescription: 8-Pin PDIP, Row Spacing 7.62, Pitch 2.54 mm; Supplier 1: Digi-Key; Supplier Part Number 1: LT1116CN8#PBF-ND; Supplier 2: Newark; Supplier Part Number 2: 57M1771; Features: Comparator, Output Latch; RoHS: Y; Supply Voltage Range: 4.5 to + / -5 V; Vos (mV) Typical: 1; Mounting Technology: Through Hole; ComponentLink1Description: Manufacturer URL; ComponentLink1URL: http://www.linear.com/; ComponentLink2Description: Datasheet; ComponentLink2URL: http://cds.linear.com/docs/en/datasheet/1116fb.pdf; ComponentLink3Description: Package Specification; ComponentLink3URL: http://cds.linear.com/docs/en/packaging/05081510_I_N8.pdf
footprint LT-N8 (DIP, 8-Leads, Body 10.16x6.477mm, Pitch 2.54mm)
pins: 1 V+ (power), 2 +IN (in), 3 -IN (in), 4 V- (power), 5 LATCH ENABLE (in), 6 GND (power), 7 Q OUT (out), 8 ~{Q} OUT (out)

## LT1116CS8
designator U?
12 ns, Single Supply Ground-Sensing Comparator, 1 Channel, 4.5 to + / -5 V, 0 to +70 degC, 8-pin SOP (S8); Generic Part Number: LT1116; Manufacturer: Linear Technology; PartNumber: LT1116CS8; Channels (#): 1; Prop Delay (us): 0.01; Supply Current (uA) Typical: 38000; Vos (mV) Guaranteed: 3; Vs Max (V): 10; Vs Min (V): 4.5; DatasheetVersion: Rev B; PackageReference: S8; PackageDescription: 8-Pin Plastic Small Outline (Narrow .150 Inch), Body 4.9 x 3.9 mm, Pitch 1.27 mm; Supplier 1: Digi-Key; Supplier Part Number 1: LT1116CS8-ND; Features: Comparator, Output Latch; RoHS: N; Supply Voltage Range: 4.5 to + / -5 V; Vos (mV) Typical: 1; Mounting Technology: Surface Mount; ComponentLink1Description: Manufacturer URL; ComponentLink1URL: http://www.linear.com/; ComponentLink2Description: Datasheet; ComponentLink2URL: http://cds.linear.com/docs/en/datasheet/1116fb.pdf; ComponentLink3Description: Package Specification; ComponentLink3URL: http://cds.linear.com/docs/en/packaging/05081610_G_SO8.pdf
footprint LT-S8_N (SOP, 8-Leads, Body 4.9x3.9mm, Pitch 1.27mm, IPC Medium Density)
footprint LT-S8_L (SOP, 8-Leads, Body 4.9x3.9mm, Pitch 1.27mm, IPC High Density)
footprint LT-S8_M (SOP, 8-Leads, Body 4.9x3.9mm, Pitch 1.27mm, IPC Low Density)
pins: 1 V+ (power), 2 +IN (in), 3 -IN (in), 4 V- (power), 5 LATCHENABLE (in), 6 GND (power), 7 QOUT (out), 8 ~{Q}OUT (out)

## LT1116CS8#PBF
designator U?
12 ns, Single Supply Ground-Sensing Comparator, 1 Channel, 4.5 to + / -5 V, 0 to +70 degC, 8-pin SOP (S8); Generic Part Number: LT1116; Manufacturer: Linear Technology; PartNumber: LT1116CS8#PBF; Channels (#): 1; Prop Delay (us): 0.01; Supply Current (uA) Typical: 38000; Vos (mV) Guaranteed: 3; Vs Max (V): 10; Vs Min (V): 4.5; DatasheetVersion: Rev B; PackageReference: S8; PackageDescription: 8-Pin Plastic Small Outline (Narrow .150 Inch), Body 4.9 x 3.9 mm, Pitch 1.27 mm; Supplier 1: Digi-Key; Supplier Part Number 1: LT1116CS8#PBF-ND; Supplier 2: Farnell; Supplier Part Number 2: 2294775; Supplier 3: Newark; Supplier Part Number 3: 57M1773; Features: Comparator, Output Latch; RoHS: Y; Supply Voltage Range: 4.5 to + / -5 V; Vos (mV) Typical: 1; Mounting Technology: Surface Mount; ComponentLink1Description: Manufacturer URL; ComponentLink1URL: http://www.linear.com/; ComponentLink2Description: Datasheet; ComponentLink2URL: http://cds.linear.com/docs/en/datasheet/1116fb.pdf; ComponentLink3Description: Package Specification; ComponentLink3URL: http://cds.linear.com/docs/en/packaging/05081610_G_SO8.pdf
footprint LT-S8_N (SOP, 8-Leads, Body 4.9x3.9mm, Pitch 1.27mm, IPC Medium Density)
footprint LT-S8_L (SOP, 8-Leads, Body 4.9x3.9mm, Pitch 1.27mm, IPC High Density)
footprint LT-S8_M (SOP, 8-Leads, Body 4.9x3.9mm, Pitch 1.27mm, IPC Low Density)
pins: 1 V+ (power), 2 +IN (in), 3 -IN (in), 4 V- (power), 5 LATCHENABLE (in), 6 GND (power), 7 QOUT (out), 8 ~{Q}OUT (out)

## LT1116CS8#TR
designator U?
12 ns, Single Supply Ground-Sensing Comparator, 1 Channel, 4.5 to + / -5 V, 0 to +70 degC, 8-pin SOP (S8), Tape and Reel; Generic Part Number: LT1116; Manufacturer: Linear Technology; PartNumber: LT1116CS8#TR; Channels (#): 1; Prop Delay (us): 0.01; Supply Current (uA) Typical: 38000; Vos (mV) Guaranteed: 3; Vs Max (V): 10; Vs Min (V): 4.5; DatasheetVersion: Rev B; PackageReference: S8; PackageDescription: 8-Pin Plastic Small Outline (Narrow .150 Inch), Body 4.9 x 3.9 mm, Pitch 1.27 mm; Supplier 1: Digi-Key; Supplier Part Number 1: LT1116CS8#TR-ND; Features: Comparator, Output Latch; RoHS: N; Supply Voltage Range: 4.5 to + / - 5 V; Vos (mV) Typical: 1; Mounting Technology: Surface Mount; ComponentLink1Description: Manufacturer URL; ComponentLink1URL: http://www.linear.com/; ComponentLink2Description: Datasheet; ComponentLink2URL: http://cds.linear.com/docs/en/datasheet/1116fb.pdf; ComponentLink3Description: Package Specification; ComponentLink3URL: http://cds.linear.com/docs/en/packaging/05081610_G_SO8.pdf
footprint LT-S8_N (SOP, 8-Leads, Body 4.9x3.9mm, Pitch 1.27mm, IPC Medium Density)
footprint LT-S8_L (SOP, 8-Leads, Body 4.9x3.9mm, Pitch 1.27mm, IPC High Density)
footprint LT-S8_M (SOP, 8-Leads, Body 4.9x3.9mm, Pitch 1.27mm, IPC Low Density)
pins: 1 V+ (power), 2 +IN (in), 3 -IN (in), 4 V- (power), 5 LATCHENABLE (in), 6 GND (power), 7 QOUT (out), 8 ~{Q}OUT (out)

## LT1116CS8#TRPBF
designator U?
12 ns, Single Supply Ground-Sensing Comparator, 1 Channel, 4.5 to + / -5 V, 0 to +70 degC, 8-pin SOP (S8), Tape and Reel; Generic Part Number: LT1116; Manufacturer: Linear Technology; PartNumber: LT1116CS8#TRPBF; Channels (#): 1; Prop Delay (us): 0.01; Supply Current (uA) Typical: 38000; Vos (mV) Guaranteed: 3; Vs Max (V): 10; Vs Min (V): 4.5; DatasheetVersion: Rev B; PackageReference: S8; PackageDescription: 8-Pin Plastic Small Outline (Narrow .150 Inch), Body 4.9 x 3.9 mm, Pitch 1.27 mm; Supplier 1: Digi-Key; Supplier Part Number 1: LT1116CS8#TRPBF-ND; Features: Comparator, Output Latch; RoHS: Y; Supply Voltage Range: 4.5 to + / -5 V; Vos (mV) Typical: 1; Mounting Technology: Surface Mount; ComponentLink1Description: Manufacturer URL; ComponentLink1URL: http://www.linear.com/; ComponentLink2Description: Datasheet; ComponentLink2URL: http://cds.linear.com/docs/en/datasheet/1116fb.pdf; ComponentLink3Description: Package Specification; ComponentLink3URL: http://cds.linear.com/docs/en/packaging/05081610_G_SO8.pdf
footprint LT-S8_N (SOP, 8-Leads, Body 4.9x3.9mm, Pitch 1.27mm, IPC Medium Density)
footprint LT-S8_L (SOP, 8-Leads, Body 4.9x3.9mm, Pitch 1.27mm, IPC High Density)
footprint LT-S8_M (SOP, 8-Leads, Body 4.9x3.9mm, Pitch 1.27mm, IPC Low Density)
pins: 1 V+ (power), 2 +IN (in), 3 -IN (in), 4 V- (power), 5 LATCHENABLE (in), 6 GND (power), 7 QOUT (out), 8 ~{Q}OUT (out)

## LT1394CMS8
designator U?
7 ns, Low Power, Single Supply, Ground-Sensing Comparator, 1 Channel, 4.5 to + / - 5 V, 0 to +70 degC, 8-pin Plastic MSOP (MS8); Generic Part Number: LT1394; Manufacturer: Linear Technology; PartNumber: LT1394CMS8; Channels (#): 1; Prop Delay (us): 0.007; Supply Current (uA) Typical: 8500; Vos (mV) Guaranteed: 2.5; Vos (mV) Typical: 0.8; Vs Max (V): 10; Vs Min (V): 4.5; PackageReference: MS8; PackageDescription: 8-Pin Plastic MSOP, Body 3 x 3 mm, Pitch 0.65 mm; Supplier 1: Digi-Key; Supplier Part Number 1: LT1394CMS8-ND; Features: Comparator, Output Latch; RoHS: N; Supply Voltage Range: 4.5 to + / -5 V; Mounting Technology: Surface Mount; ComponentLink1Description: Manufacturer URL; ComponentLink1URL: http://www.linear.com/; ComponentLink2Description: Datasheet; ComponentLink2URL: http://cds.linear.com/docs/en/datasheet/1394f.pdf; ComponentLink3Description: Package Specification; ComponentLink3URL: http://cds.linear.com/docs/en/packaging/MSOP_8_05-08-1660.pdf
footprint LT-MS8_N (SOP, 8-Leads, Body 3x3mm, Pitch 0.65mm, IPC Medium Density)
footprint LT-MS8_L (SOP, 8-Leads, Body 3x3mm, Pitch 0.65mm, IPC High Density)
footprint LT-MS8_M (SOP, 8-Leads, Body 3x3mm, Pitch 0.65mm, IPC Low Density)
pins: 1 V+ (power), 2 +IN (in), 3 -IN (in), 4 V- (power), 5 LATCHENABLE (in), 6 GND (power), 7 QOUT (out), 8 ~{Q}OUT (out)

## LT1394CMS8#PBF
designator U?
7 ns, Low Power, Single Supply, Ground-Sensing Comparator, 1 Channel, 4.5 to + / - 5 V, 0 to +70 degC, 8-pin Plastic MSOP (MS8); Generic Part Number: LT1394; Manufacturer: Linear Technology; PartNumber: LT1394CMS8#PBF; Channels (#): 1; Prop Delay (us): 0.007; Supply Current (uA) Typical: 8500; Vos (mV) Guaranteed: 2.5; Vos (mV) Typical: 0.8; Vs Max (V): 10; Vs Min (V): 4.5; PackageReference: MS8; PackageDescription: 8-Pin Plastic MSOP, Body 3 x 3 mm, Pitch 0.65 mm; Supplier 1: Digi-Key; Supplier Part Number 1: LT1394CMS8#PBF-ND; Supplier 2: Newark; Supplier Part Number 2: 57M3857; Features: Comparator, Output Latch; RoHS: Y; Supply Voltage Range: 4.5 to + / -5 V; Mounting Technology: Surface Mount; ComponentLink1Description: Manufacturer URL; ComponentLink1URL: http://www.linear.com/; ComponentLink2Description: Datasheet; ComponentLink2URL: http://cds.linear.com/docs/en/datasheet/1394f.pdf; ComponentLink3Description: Package Specification; ComponentLink3URL: http://cds.linear.com/docs/en/packaging/MSOP_8_05-08-1660.pdf
footprint LT-MS8_N (SOP, 8-Leads, Body 3x3mm, Pitch 0.65mm, IPC Medium Density)
footprint LT-MS8_L (SOP, 8-Leads, Body 3x3mm, Pitch 0.65mm, IPC High Density)
footprint LT-MS8_M (SOP, 8-Leads, Body 3x3mm, Pitch 0.65mm, IPC Low Density)
pins: 1 V+ (power), 2 +IN (in), 3 -IN (in), 4 V- (power), 5 LATCHENABLE (in), 6 GND (power), 7 QOUT (out), 8 ~{Q}OUT (out)

## LT1394CMS8#TR
designator U?
7 ns, Low Power, Single Supply, Ground-Sensing Comparator, 1 Channel, 4.5 to + / - 5 V, 0 to +70 degC, 8-pin Plastic MSOP (MS8), Tape and Reel; Generic Part Number: LT1394; Manufacturer: Linear Technology; PartNumber: LT1394CMS8#TR; Channels (#): 1; Prop Delay (us): 0.007; Supply Current (uA) Typical: 8500; Vos (mV) Guaranteed: 2.5; Vos (mV) Typical: 0.8; Vs Max (V): 10; Vs Min (V): 4.5; PackageReference: MS8; PackageDescription: 8-Pin Plastic MSOP, Body 3 x 3 mm, Pitch 0.65 mm; Supplier 1: Digi-Key; Supplier Part Number 1: LT1394CMS8#TR-ND; Features: Comparator, Output Latch; RoHS: N; Supply Voltage Range: 4.5 to + / -5 V; Mounting Technology: Surface Mount; ComponentLink1Description: Manufacturer URL; ComponentLink1URL: http://www.linear.com/; ComponentLink2Description: Datasheet; ComponentLink2URL: http://cds.linear.com/docs/en/datasheet/1394f.pdf; ComponentLink3Description: Package Specification; ComponentLink3URL: http://cds.linear.com/docs/en/packaging/MSOP_8_05-08-1660.pdf
footprint LT-MS8_N (SOP, 8-Leads, Body 3x3mm, Pitch 0.65mm, IPC Medium Density)
footprint LT-MS8_L (SOP, 8-Leads, Body 3x3mm, Pitch 0.65mm, IPC High Density)
footprint LT-MS8_M (SOP, 8-Leads, Body 3x3mm, Pitch 0.65mm, IPC Low Density)
pins: 1 V+ (power), 2 +IN (in), 3 -IN (in), 4 V- (power), 5 LATCHENABLE (in), 6 GND (power), 7 QOUT (out), 8 ~{Q}OUT (out)

## LT1394CMS8#TRPBF
designator U?
7 ns, Low Power, Single Supply, Ground-Sensing Comparator, 1 Channel, 4.5 to + / - 5 V, 0 to +70 degC, 8-pin Plastic MSOP (MS8), Tape and Reel; Generic Part Number: LT1394; Manufacturer: Linear Technology; PartNumber: LT1394CMS8#TRPBF; Channels (#): 1; Prop Delay (us): 0.007; Supply Current (uA) Typical: 8500; Vos (mV) Guaranteed: 2.5; Vos (mV) Typical: 0.8; Vs Max (V): 10; Vs Min (V): 4.5; PackageReference: MS8; PackageDescription: 8-Pin Plastic MSOP, Body 3 x 3 mm, Pitch 0.65 mm; Supplier 1: Digi-Key; Supplier Part Number 1: LT1394CMS8#TRPBF-ND; Features: Comparator, Output Latch; RoHS: Y; Supply Voltage Range: 4.5 to + / -5 V; Mounting Technology: Surface Mount; ComponentLink1Description: Manufacturer URL; ComponentLink1URL: http://www.linear.com/; ComponentLink2Description: Datasheet; ComponentLink2URL: http://cds.linear.com/docs/en/datasheet/1394f.pdf; ComponentLink3Description: Package Specification; ComponentLink3URL: http://cds.linear.com/docs/en/packaging/MSOP_8_05-08-1660.pdf
footprint LT-MS8_N (SOP, 8-Leads, Body 3x3mm, Pitch 0.65mm, IPC Medium Density)
footprint LT-MS8_L (SOP, 8-Leads, Body 3x3mm, Pitch 0.65mm, IPC High Density)
footprint LT-MS8_M (SOP, 8-Leads, Body 3x3mm, Pitch 0.65mm, IPC Low Density)
pins: 1 V+ (power), 2 +IN (in), 3 -IN (in), 4 V- (power), 5 LATCHENABLE (in), 6 GND (power), 7 QOUT (out), 8 ~{Q}OUT (out)